# Altium schematic symbol library Components_Schematics.SchLib: 21 symbols
Pins are listed as number, name and electrical type; pins without a type are passive.

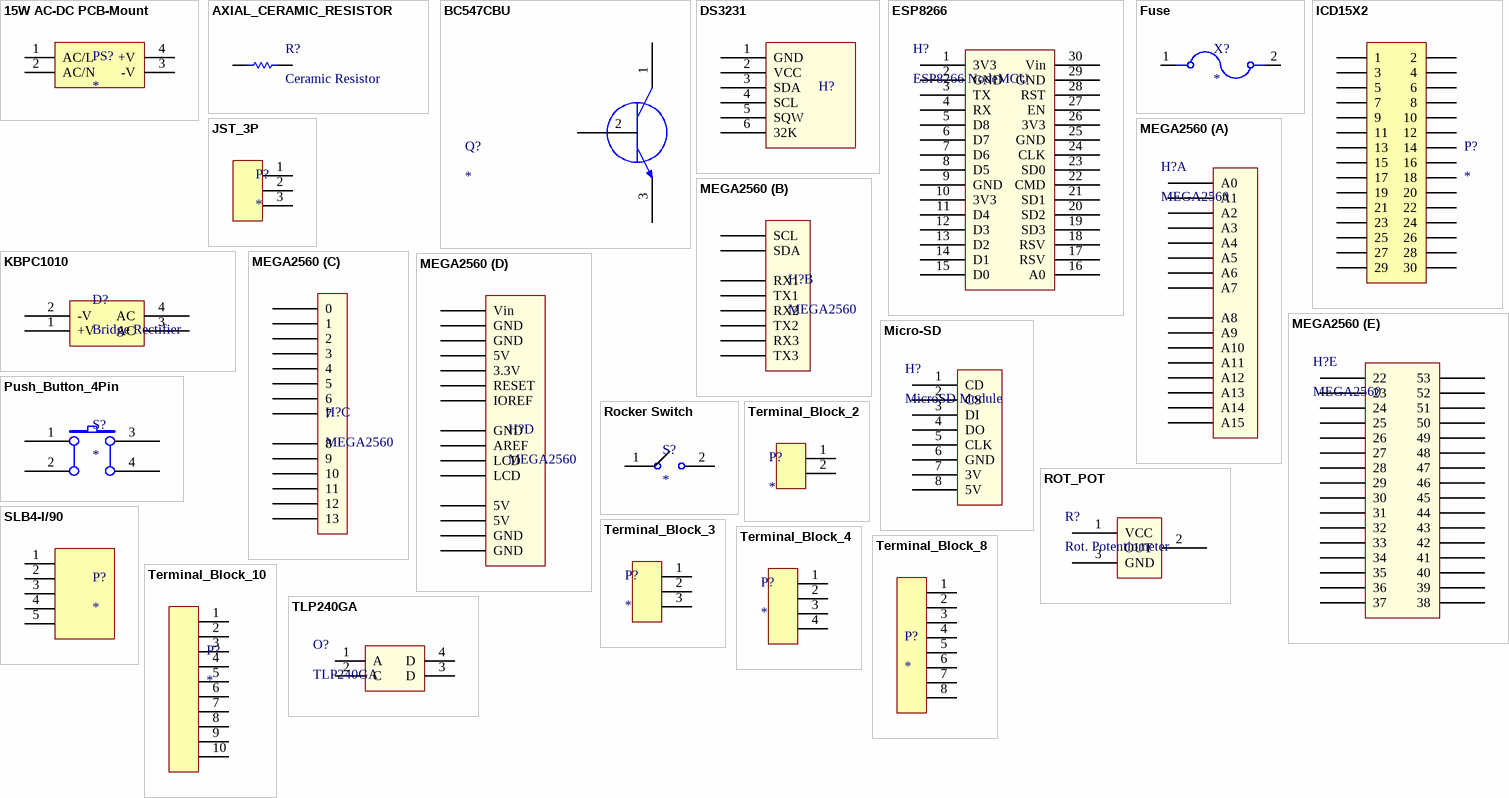
[diagram p0: symbols 15W AC-DC PCB-Mount to TLP240GA]

## 15W AC-DC PCB-Mount
designator PS?
footprint 15W AC-DC PCB-Mount
pins: 1 AC/L, 2 AC/N, 3 -V, 4 +V

## AXIAL_CERAMIC_RESISTOR
designator R?, comment Ceramic Resistor
footprint AXIAL_CERAMIC_RESISTOR (Axial Ceramic Resistor)
pins: 1, 2

## BC547CBU
designator Q?
footprint BC547CBU
pins: 1 C, 2 B, 3 E

## DS3231
designator H?
RTC MODULE
footprint DS3231_VERTICAL (RTC Module)
footprint DS3231_HORIZONTAL
pins: 1 GND, 2 VCC, 3 SDA, 4 SCL, 5 SQW, 6 32K

## ESP8266
designator H?, comment ESP8266 NodeMCU
NODEMCU V2 ESP8266
footprint ESP8266_NodeMCU
pins: 1 3V3, 2 GND, 3 TX, 4 RX, 5 D8, 6 D7, 7 D6, 8 D5, 9 GND, 10 3V3, 11 D4, 12 D3, 13 D2, 14 D1, 15 D0, 16 A0, 17 RSV, 18 RSV, 19 SD3, 20 SD2, 21 SD1, 22 CMD, 23 SD0, 24 CLK, 25 GND, 26 3V3, 27 EN, 28 RST, 29 GND, 30 Vin

## Fuse
designator X?
footprint Fuse Holder
pins: 1, 2

## ICD15X2
designator P?
footprint IDC15X2
pins: 1, 2, 3, 4, 5, 6, 7, 8, 9, 10, 11, 12, 13, 14, 15, 16, 17, 18, 19, 20, 21, 22, 23, 24, 25, 26, 27, 28, 29, 30

## JST_3P
designator P?
footprint JST_3P_ANGLE (JST-XH Through Hole Right Angle Connectors)
footprint JST_3P_VERT (JST-XH Through Hole Right Angle Connectors)
pins: 1, 2, 3

## KBPC1010
designator D?, comment Bridge Rectifier
Single-Phase Silicon Bridge Rectifier Rectifier
footprint KBPC1010 (Single-Phase Silicon Bridge Rectifier Rectifier)
pins: 1 +V, 2 -V, 3 AC, 4 AC

## MEGA2560
designator H?
Arduino Mega2560
footprint MEGA2560_Inv (Arduino Mega 2560 Inverted)
part A pins: A0, A1, A2, A3, A4, A5, A6, A7, A8, A9, A10, A11, A12, A13, A14, A15
part B pins: RX1, RX2, RX3, SCL, SDA, TX1, TX2, TX3
part C pins: 0, 1, 2, 3, 4, 5, 6, 7, 8, 9, 10, 11, 12, 13
part D pins: 3.3V, 5V, 5V_1 5V, 5V_2 5V, AREF, GND, GND_1 GND, GND_2 GND, GND_3 GND, GND_4 GND, IOREF, LCD, LCD_1 LCD, RESET, Vin
part E pins: 22, 23, 24, 25, 26, 27, 28, 29, 30, 31, 32, 33, 34, 35, 36, 37, 38, 39, 40, 41, 42, 43, 44, 45, 46, 47, 48, 49, 50, 51, 52, 53

## Micro-SD
designator H?, comment MicroSD Module
Adafruit Micro SD Card Breakout Board
footprint Micro-SD (Adafruit Micro SD Card Breakout Board)
pins: 1 CD, 2 CS, 3 DI, 4 DO, 5 CLK, 6 GND, 7 3V, 8 5V

## Push_Button_4Pin
designator S?
footprint PUSH_BUTTON
pins: 1, 2, 3, 4

## Rocker Switch
designator S?
footprint Rocker Switch (SPST (right-angle))
pins: 1, 2

## ROT_POT
designator R?, comment Rot. Potentiometer
Rotatory Potentiometer
footprint Rotatory_Potentiometer
footprint PTV09A-4020F-B504 (Potenciómetros PANEL CONTROL - 9MM-ST-CARBON)
pins: 1 VCC, 2 OUT, 3 GND

## SLB4-I/90
designator P?
footprint SLB4-I/90
pins: 1, 2 Vin, 3 Vin, 4 Vin, 5 Vin

## Terminal_Block_2
designator P?
footprint Terminal_Block_2
pins: 1, 2

## Terminal_Block_3
designator P?
footprint Terminal_Block_3
pins: 1, 2, 3

## Terminal_Block_4
designator P?
footprint Terminal_Block_4
pins: 1, 2, 3, 4

## Terminal_Block_8
designator P?
footprint Terminal_Block_8
pins: 1, 2, 3, 4, 5, 6, 7, 8

## Terminal_Block_10
designator P?
footprint Terminal_Block_10
pins: 1, 2, 3, 4, 5, 6, 7, 8, 9, 10

## TLP240GA
designator O?
Photorelay
footprint TLP240GA
pins: 1 A, 2 C, 3 D, 4 D